# Altium schematic symbol library MP.SchLib: 1 symbol
Pins are listed as number, name and electrical type; pins without a type are passive.

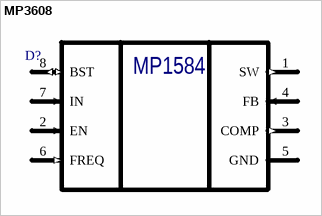
[diagram p0: symbol MP3608]

## MP3608
designator D?  (value not drawn)
Manufacturer: MPS; Type: микросхема; ManufacturerPartNumber: MP3608; Name: *
footprint SOIC127P600-9M (SOIC, 9-Leads)
pins: 1 SW (out), 2 EN (in), 3 COMP (out), 4 FB (in), 5 GND (power), 6 FREQ (in), 7 IN (in), 8 BST (io), EPAD (power) hidden to GND "GND"
text: MP1584